# EAGLE library part SDCARDLIBDEV (library SDcardlibraryroborio)
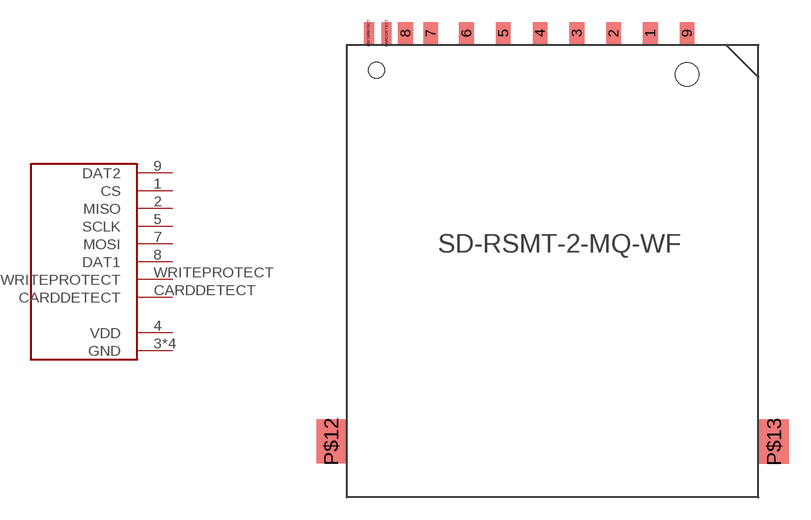
[diagram p0: symbol with the pads of SDCARDCONNECTION; footprint SDCARDCONNECTION]

Designator prefix -

## SDCARDLIBDEV  [SDCARDCONNECTION]
1  CS
2  MISO
3  GND
4  VDD
5  SCLK
6  GND
7  MOSI
8  DAT1
9  DAT2
CARDDETECT  CARDDETECT
P$12  GND
P$13  GND
WRITEPROTECT  WRITEPROTECT

## Footprint SDCARDCONNECTION (pad centres in mm)
smd 1 x 1.5: 1 6.74,15.73; 2 4.24,15.73; 3 1.75,15.73; 4 -0.75,15.73; 5 -3.25,15.73; 6 -5.75,15.73; 7 -8.18,15.73; 8 -9.89,15.73; 9 9.23,15.73
smd 0.7 x 1.5: CARDDETECT -11.18,15.73; WRITEPROTECT -12.38,15.73
smd 2 x 3: P$12 -14.95,-12.02; P$13 15.14,-12.03
hole 1.1 at -11.87,13.21
hole 1.6 at 9.23,12.93